# Altium schematic symbol library ( volt regulator through hole.SchLib: 1 symbol
Pins are listed as number, name and electrical type; pins without a type are passive.

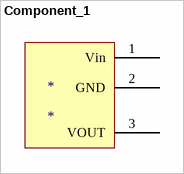
[diagram p0: symbol Component_1]

## Component_1
designator *
footprint TO225P1040X460X1968-3
pins: 1 Vin, 2 GND, 3 VOUT